# Altium integrated library WE-MPSB EMI Multilayer Power Suppression Bead.IntLib: 11 symbols
Pins are listed as number, name and electrical type; pins without a type are passive.

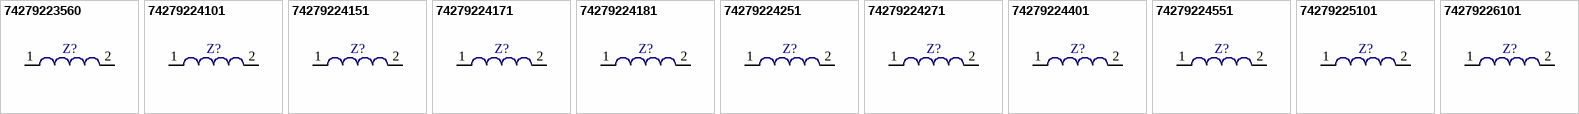
[diagram p0: symbols 74279223560 to 74279226101]

## 74279223560
designator Z?
SMD-EMI Multilayer Power  Suppression Bead WE-MPSB, Z=56 Ohms; PartNumber: 74279223560; Impedance: 56 Ohm; PackageReference: WE-MPSB-1612; ComponentLink1Description: Manufacturer URL; ComponentLink1URL: http://www.we-online.com; ComponentLink2Description: Datasheet; ComponentLink2URL: http://katalog.we-online.com/pbs/datasheet/74279223560.pdf
footprint WE-MPSB-1612 (Chip Inductor, 2-Leads, Body 4.1x3.1mm, IPC Medium Density)
pins: 1, 2

## 74279224101
designator Z?
SMD-EMI Multilayer Power  Suppression Bead WE-MPSB, Z=100 Ohms; PartNumber: 74279224101; Impedance: 100 Ohm; PackageReference: WE-MPSB-2220-H-1.8; ComponentLink1Description: Manufacturer URL; ComponentLink1URL: http://www.we-online.com; ComponentLink2Description: Datasheet; ComponentLink2URL: http://katalog.we-online.com/pbs/datasheet/74279224101.pdf
footprint WE-MPSB-2220-H-1.8 (Chip Inductor, 2-Leads, Body 5.6x5.1mm, IPC Medium Density)
pins: 1, 2

## 74279224151
designator Z?
SMD-EMI Multilayer Power  Suppression Bead WE-MPSB, Z=150 Ohms; PartNumber: 74279224151; Impedance: 150 Ohm; PackageReference: WE-MPSB-2220-H-1.8; ComponentLink1Description: Manufacturer URL; ComponentLink1URL: http://www.we-online.com; ComponentLink2Description: Datasheet; ComponentLink2URL: http://katalog.we-online.com/pbs/datasheet/74279224151.pdf
footprint WE-MPSB-2220-H-1.8 (Chip Inductor, 2-Leads, Body 5.6x5.1mm, IPC Medium Density)
pins: 1, 2

## 74279224171
designator Z?
SMD-EMI Multilayer Power  Suppression Bead WE-MPSB, Z=170 Ohms; PartNumber: 74279224171; Impedance: 170 Ohm; PackageReference: WE-MPSB-2220-H-1.52; ComponentLink1Description: Manufacturer URL; ComponentLink1URL: http://www.we-online.com; ComponentLink2Description: Datasheet; ComponentLink2URL: http://katalog.we-online.com/pbs/datasheet/74279224171.pdf
footprint WE-MPSB-2220-H-1.52 (Chip Inductor, 2-Leads, Body 5.6x5.1mm, IPC Medium Density)
pins: 1, 2

## 74279224181
designator Z?
SMD-EMI Multilayer Power  Suppression Bead WE-MPSB, Z=180 Ohms; PartNumber: 74279224181; Impedance: 180 Ohm; PackageReference: WE-MPSB-2220-H-1.8; ComponentLink1Description: Manufacturer URL; ComponentLink1URL: http://www.we-online.com; ComponentLink2Description: Datasheet; ComponentLink2URL: http://katalog.we-online.com/pbs/datasheet/74279224181.pdf
footprint WE-MPSB-2220-H-1.8 (Chip Inductor, 2-Leads, Body 5.6x5.1mm, IPC Medium Density)
pins: 1, 2

## 74279224251
designator Z?
SMD-EMI Multilayer Power  Suppression Bead WE-MPSB, Z=250 Ohms; PartNumber: 74279224251; Impedance: 250 Ohm; PackageReference: WE-MPSB-2220-H-1.8; ComponentLink1Description: Manufacturer URL; ComponentLink1URL: http://www.we-online.com; ComponentLink2Description: Datasheet; ComponentLink2URL: http://katalog.we-online.com/pbs/datasheet/74279224251.pdf
footprint WE-MPSB-2220-H-1.8 (Chip Inductor, 2-Leads, Body 5.6x5.1mm, IPC Medium Density)
pins: 1, 2

## 74279224271
designator Z?
SMD-EMI Multilayer Power  Suppression Bead WE-MPSB, Z=270 Ohms; PartNumber: 74279224271; Impedance: 270 Ohm; PackageReference: WE-MPSB-2220-H-3.2; ComponentLink1Description: Manufacturer URL; ComponentLink1URL: http://www.we-online.com; ComponentLink2Description: Datasheet; ComponentLink2URL: http://katalog.we-online.com/pbs/datasheet/74279224271.pdf
footprint WE-MPSB-2220-H-3.2 (Chip Inductor, 2-Leads, Body 5.6x5.1mm, IPC Medium Density)
pins: 1, 2

## 74279224401
designator Z?
SMD-EMI Multilayer Power  Suppression Bead WE-MPSB, Z=400 Ohms; PartNumber: 74279224401; Impedance: 400 Ohm; PackageReference: WE-MPSB-2220-H-3.2; ComponentLink1Description: Manufacturer URL; ComponentLink1URL: http://www.we-online.com; ComponentLink2Description: Datasheet; ComponentLink2URL: http://katalog.we-online.com/pbs/datasheet/74279224401.pdf
footprint WE-MPSB-2220-H-3.2 (Chip Inductor, 2-Leads, Body 5.6x5.1mm, IPC Medium Density)
pins: 1, 2

## 74279224551
designator Z?
SMD-EMI Multilayer Power  Suppression Bead WE-MPSB, Z=550 Ohms; PartNumber: 74279224551; Impedance: 550 Ohm; PackageReference: WE-MPSB-2220-H-1.97; ComponentLink1Description: Manufacturer URL; ComponentLink1URL: http://www.we-online.com; ComponentLink2Description: Datasheet; ComponentLink2URL: http://katalog.we-online.com/pbs/datasheet/74279224551.pdf
footprint WE-MPSB-2220-H-1.97 (Chip Inductor, 2-Leads, Body 5.6x5.1mm, IPC Medium Density)
pins: 1, 2

## 74279225101
designator Z?
SMD-EMI Multilayer Power  Suppression Bead WE-MPSB, Z=100 Ohms; PartNumber: 74279225101; Impedance: 100 Ohm; PackageReference: WE-MPSB-3312; ComponentLink1Description: Manufacturer URL; ComponentLink1URL: http://www.we-online.com; ComponentLink2Description: Datasheet; ComponentLink2URL: http://katalog.we-online.com/pbs/datasheet/74279225101.pdf
footprint WE-MPSB-3312 (Chip Inductor, 2-Leads, Body 8.5x3.0mm, IPC Medium Density)
pins: 1, 2

## 74279226101
designator Z?
SMD-EMI Multilayer Power  Suppression Bead WE-MPSB, Z=100 Ohms; PartNumber: 74279226101; Impedance: 100 Ohm; PackageReference: WE-MPSB-1812; ComponentLink1Description: Manufacturer URL; ComponentLink1URL: http://www.we-online.com; ComponentLink2Description: Datasheet; ComponentLink2URL: http://katalog.we-online.com/pbs/datasheet/74279226101.pdf
footprint WE-MPSB-1812 (Chip Inductor, 2-Leads, Body 4.5x3.2mm, IPC Medium Density)
pins: 1, 2